# Altium footprint library vdfn.PcbLib: 2 footprints
Each footprint in its own frame and in the unit in brackets; x right, y up, seen from the top. Pads: shape width x height; smd on the part's side, far side on the other; paste and mask are expansions set on the pad; w line width, h text height; cw(c..) or ccw(c..) is an arc to the next point about the centre after c.
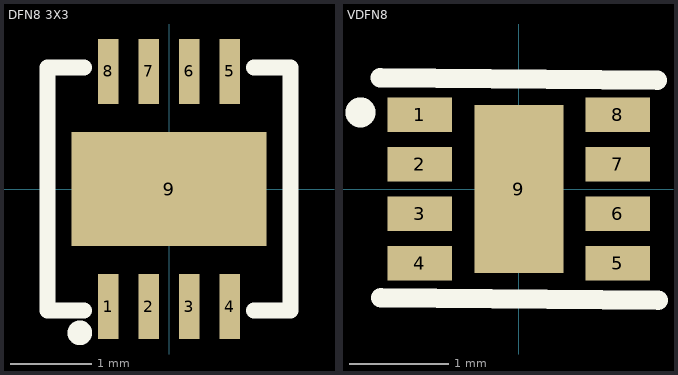
[diagram p0: the footprints below, top view; thin cyan lines are the x and y axes]

## DFN8 3X3 [mm] "8 lead 3 x 3 mm"
height 0.8
pads (9):
  rect 0.25x0.8 smd mask+0.05: 1(-0.75,-1.45) 2(-0.25,-1.45) 3(0.25,-1.45) 4(0.75,-1.45) 5(0.75,1.45) 6(0.25,1.45) 7(-0.25,1.45) 8(-0.75,1.45)
  rect 2.4x1.4 smd: 9(0,0)
Top Overlay:
  circle w0.254: c-1.1,-1.775 r0.025
  lines w0.2: -1.05,-1.5 -1.5,-1.5 -1.5,-1.35 -1.5,1.35 -1.5,1.5 -1.05,1.5 ; 1.05,-1.5 1.5,-1.5 1.5,1.5 1.05,1.5
3D body: height 1, standoff 0, extent -1.5,-1.5 1.5,1.5
3D body "User Library-DFN-8 DCB.step": height 0.75, standoff 0, extent -1,-1.51 1,1.51

## VDFN8 [mm] "Space Saving, 8-Lead Plastic 2mm x 2mm VDFN-8"
height 0.9
pads (9):
  rect 0.65x0.35 smd: 1(-1,0.75) 2(-1,0.25) 3(-1,-0.25) 4(-1,-0.75) 5(1,-0.75) 6(1,-0.25) 7(1,0.25) 8(1,0.75)
  rect 0.9x1.7 smd: 9(0,0)
Top Overlay:
  circle w0.254: c-1.6,0.775 r0.025
  lines w0.2: -1.4,1.125 1.4,1.1 ; -1.393,-1.099 1.407,-1.124
3D body: height 0.9, standoff 0, extent -1,-1 1,1